# Altium footprint library STM32f103VET6.PcbLib: 28 footprints (part 1 of 2)
Each footprint in its own frame and in the unit in brackets; x right, y up, seen from the top. Pads: shape width x height; smd on the part's side, far side on the other; paste and mask are expansions set on the pad; w line width, h text height; cw(c..) or ccw(c..) is an arc to the next point about the centre after c.
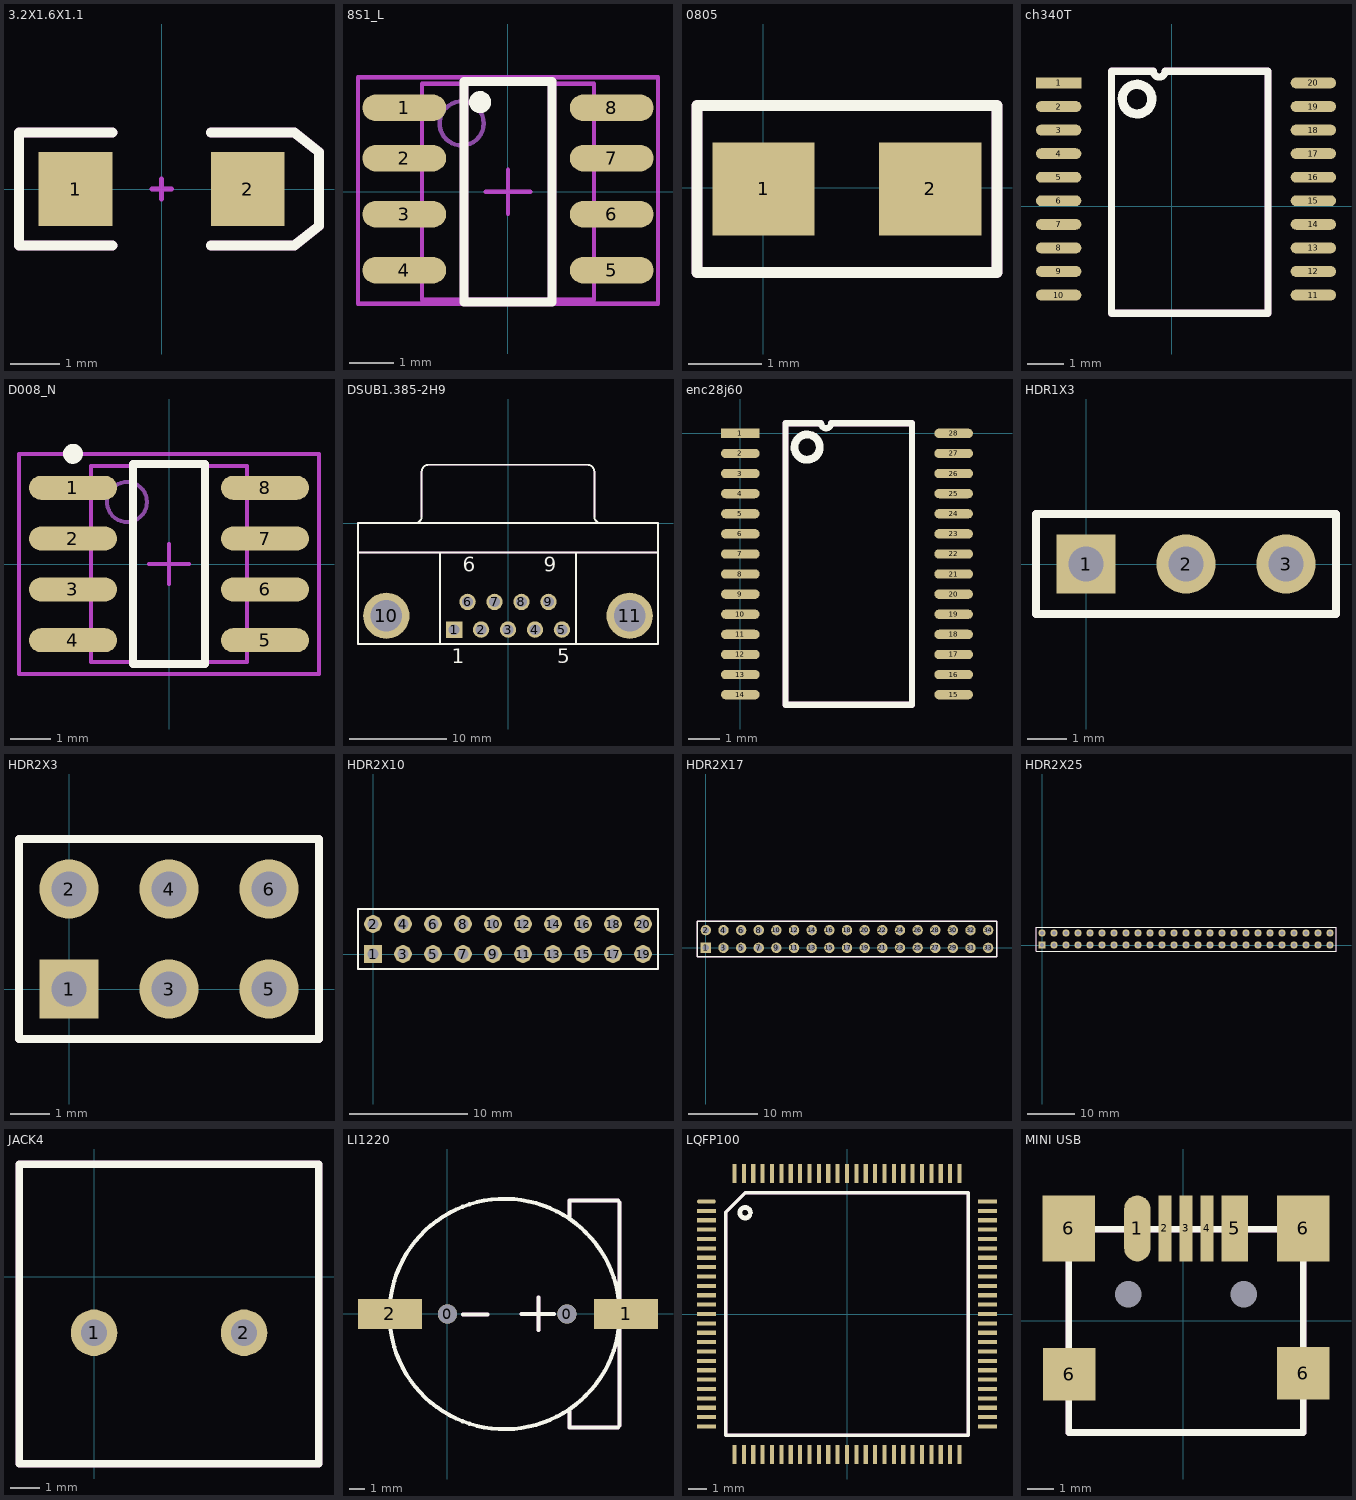
[diagram p0: the footprints below, top view; thin cyan lines are the x and y axes]

## 3.2X1.6X1.1 [mm] "SMT LED; 2 Flat Leads"
height 1.2
pads (2):
  rect 1.5x1.5 smd: 1(-1.75,0) 2(1.75,0)
Top Overlay keep-out:
  lines w0.2: -1,-1.15 -2.9,-1.15 -2.9,1.15 -1,1.15 ; 1,-1.15 2.7,-1.15 3.2,-0.75 3.2,0.75 2.7,1.15 1,1.15
Mechanical 1 keep-out:
  lines w0.1: -0.2,0 0.2,0 ; 0,-0.2 0,0.2

## 8S1_L [mm] "8-Pin Small Outline Integrated Circuit 1.27 mm Pitch, IPC High Density"
height 1.73
pads (8):
  oval 1.9x0.6 smd: 1(-2.35,1.905) 2(-2.35,0.762) 3(-2.35,-0.508) 4(-2.35,-1.778) 5(2.35,-1.778) 6(2.35,-0.508) 7(2.35,0.762) 8(2.35,1.905)
Top Overlay:
  circle w0.25: c-0.633,2.032 r0.125
Top Overlay keep-out:
  lines w0.2: -1,-2.5 -1,2.5 1,2.5 1,-2.5 -1,-2.5
Mechanical 13:
  circle w0.1: c-1.05,1.55 r0.5
Mechanical 13 keep-out:
  lines w0.1: -1.95,-2.45 -1.95,2.45 1.95,2.45 1.95,-2.45 -1.95,-2.45
Mechanical 15 keep-out:
  lines w0.1: -0.5,0 0.5,0 ; 0,-0.5 0,0.5 ; -3.4,-2.54 -3.4,2.6 3.4,2.6 3.4,-2.54 -3.4,-2.54
3D body: height 1.73, standoff 0, extent -1.95,-2.45 1.95,2.45

## 0805 [mm]
pads (2):
  rect 1.4x1.27 smd: 1(0.006,-0.016) 2(2.292,-0.016)
Top Overlay keep-out:
  lines w0.152: -0.907,-1.159 3.208,-1.159 3.208,1.127 -0.907,1.127 -0.907,-1.159

## ch340T [mm]
pads (20):
  rect 1.25x0.3 smd: 1(-3.125,3.4)
  oval 1.25x0.3 smd: 2(-3.125,2.75) 3(-3.125,2.1) 4(-3.125,1.45) 5(-3.125,0.8) 6(-3.125,0.15) 7(-3.125,-0.5) 8(-3.125,-1.15) 9(-3.125,-1.8) 10(-3.125,-2.45) 11(3.9,-2.45) 12(3.9,-1.8) 13(3.9,-1.15) 14(3.9,-0.5) 15(3.9,0.15) 16(3.9,0.8) 17(3.9,1.45) 18(3.9,2.1) 19(3.9,2.75) 20(3.9,3.4)
Top Overlay:
  lines w0.2: -0.513,3.725 ccw(c-0.35,3.725) -0.188,3.725
  lines w0.254: -1.367,2.896 cw(c-0.963,2.954) -1.35,2.825
Top Overlay keep-out:
  lines w0.2: -0.513,3.725 -1.665,3.725 -1.665,-2.95 2.65,-2.95 2.65,3.725 -0.188,3.725

## D008_N [mm] "8-Pin Small Outline Integrated Circuit 1.27 mm Pitch, IPC Medium Density"
height 1.75
pads (8):
  oval 2.2x0.6 smd: 1(-2.4,1.905) 2(-2.4,0.635) 3(-2.4,-0.635) 4(-2.4,-1.905) 5(2.4,-1.905) 6(2.4,-0.635) 7(2.4,0.635) 8(2.4,1.905)
Top Overlay:
  circle w0.25: c-2.4,2.755 r0.125
Top Overlay keep-out:
  lines w0.2: -0.9,-2.5 -0.9,2.5 0.9,2.5 0.9,-2.5 -0.9,-2.5
Mechanical 13:
  circle w0.1: c-1.05,1.55 r0.5
Mechanical 13 keep-out:
  lines w0.1: -1.95,-2.45 -1.95,2.45 1.95,2.45 1.95,-2.45 -1.95,-2.45
Mechanical 15 keep-out:
  lines w0.1: -0.5,0 0.5,0 ; 0,-0.5 0,0.5 ; -3.75,-2.75 -3.75,2.75 3.75,2.75 3.75,-2.75 -3.75,-2.75
3D body: height 1.75, standoff 0, extent -1.95,-2.45 1.95,2.45

## DSUB1.385-2H9 [mm] "Connector; D Subminiature; 9 Position; Right Angle; Pitch 1.385 mm"
height 12.75
pads (11):
  rect 1.69x1.69 hole 1.09: 1(-5.54,-10.92)
  round 1.69 hole 1.09: 2(-2.77,-10.92) 3(0,-10.92) 4(2.77,-10.92) 5(5.54,-10.92) 6(-4.155,-8.08) 7(-1.385,-8.08) 8(1.385,-8.08) 9(4.155,-8.08)
  round 4.76 hole 3.26: 10(-12.495,-9.5) 11(12.495,-9.5)
Top Overlay:
  lines w0.2: -9.56,0.005 ccw(c-9.56,0.7) -8.865,0.7 ; -8.86,5.305 cw(c-8.165,5.305) -8.165,6 ; 8.165,6 cw(c8.165,5.305) 8.86,5.305 ; 8.865,0.7 ccw(c9.56,0.7) 9.56,0.005
  text "6" at -4.655,-4.975 h1.5
  text "9" at 3.655,-4.975 h1.5
  text "5" at 5.04,-14.375 h1.5
  text "1" at -5.79,-14.375 h1.5
Top Overlay keep-out:
  lines w0.2: -15.4,-3 15.4,-3 ; -8.865,0.7 -8.865,5.3 ; -8.165,6 8.165,6 ; -7,-12.4 -7,-3 ; 7,-12.4 7,-3 ; 8.865,0.7 8.865,5.3 ; -15.4,-12.4 15.4,-12.4 15.4,0 -15.4,0 -15.4,-12.4

## enc28j60 [mm]
pads (28):
  rect 1.25x0.3 smd: 1(0,0)
  oval 1.25x0.3 smd: 2(0,-0.65) 3(0,-1.3) 4(0,-1.95) 5(0,-2.6) 6(0,-3.25) 7(0,-3.9) 8(0,-4.55) 9(0,-5.2) 10(0,-5.85) 11(0,-6.5) 12(0,-7.15) 13(0,-7.8) 14(0,-8.45) 15(6.9,-8.45) 16(6.9,-7.8) 17(6.9,-7.15) 18(6.9,-6.5) 19(6.9,-5.85) 20(6.9,-5.2) 21(6.9,-4.55) 22(6.9,-3.9) 23(6.9,-3.25) 24(6.9,-2.6) 25(6.9,-1.95) 26(6.9,-1.3) 27(6.9,-0.65) 28(6.9,0)
Top Overlay:
  lines w0.2: 2.612,0.325 ccw(c2.775,0.325) 2.937,0.325
  lines w0.254: 1.758,-0.504 cw(c2.162,-0.446) 1.775,-0.575
Top Overlay keep-out:
  lines w0.2: 2.612,0.325 1.46,0.325 1.46,-8.775 5.55,-8.775 5.55,0.325 2.937,0.325

## HDR1X3 [mm] "Connector; Header; 3 Position"
pads (3):
  rect 1.5x1.5 hole 0.9: 1(0,0)
  round 1.5 hole 0.9: 2(2.54,0) 3(5.08,0)
Top Overlay keep-out:
  lines w0.2: -1.27,-1.27 6.35,-1.27 6.35,1.27 -1.27,1.27 -1.27,-1.27

## HDR2X3 [mm] "Connector; Header; 3x2 Position"
pads (6):
  rect 1.5x1.5 hole 0.9: 1(0,0)
  round 1.5 hole 0.9: 2(0,2.54) 3(2.54,0) 4(2.54,2.54) 5(5.08,0) 6(5.08,2.54)
Top Overlay keep-out:
  lines w0.2: 1.482,-1.27 6.35,-1.27 ; 6.35,-1.27 6.35,3.81 -1.27,3.81 -1.27,-1.27 6.35,-1.27

## HDR2X10 [mm] "Connector; Header; 10x2 Position"
pads (20):
  rect 1.5x1.5 hole 0.9: 1(0,0)
  round 1.5 hole 0.9: 2(0,2.54) 3(2.54,0) 4(2.54,2.54) 5(5.08,0) 6(5.08,2.54) 7(7.62,0) 8(7.62,2.54) 9(10.16,0) 10(10.16,2.54) 11(12.7,0) 12(12.7,2.54) 13(15.24,0) 14(15.24,2.54) 15(17.78,0) 16(17.78,2.54) 17(20.32,0) 18(20.32,2.54) 19(22.86,0) 20(22.86,2.54)
Top Overlay keep-out:
  lines w0.2: -1.27,-1.27 0.635,-1.27 24.13,-1.27 24.13,3.81 0.635,3.81 -1.27,3.81 -1.27,-1.27

## HDR2X17 [mm] "Connector; Header; 17x2 Position"
pads (34):
  rect 1.5x1.5 hole 0.9: 1(0,0)
  round 1.5 hole 0.9: 2(0,2.54) 3(2.54,0) 4(2.54,2.54) 5(5.08,0) 6(5.08,2.54) 7(7.62,0) 8(7.62,2.54) 9(10.16,0) 10(10.16,2.54) 11(12.7,0) 12(12.7,2.54) 13(15.24,0) 14(15.24,2.54) 15(17.78,0) 16(17.78,2.54) 17(20.32,0) 18(20.32,2.54) 19(22.86,0) 20(22.86,2.54) 21(25.4,0) 22(25.4,2.54) 23(27.94,0) 24(27.94,2.54) 25(30.48,0) 26(30.48,2.54) 27(33.02,0) 28(33.02,2.54) 29(35.56,0) 30(35.56,2.54) 31(38.1,0) 32(38.1,2.54) 33(40.64,0) 34(40.64,2.54)
Top Overlay keep-out:
  lines w0.2: -1.27,-1.27 41.91,-1.27 41.91,3.81 -1.27,3.81 -1.27,-1.27

## HDR2X25 [mm] "Connector; Header; 25x2 Position"
pads (50):
  rect 1.5x1.5 hole 0.9: 1(0,0)
  round 1.5 hole 0.9: 2(0,2.54) 3(2.54,0) 4(2.54,2.54) 5(5.08,0) 6(5.08,2.54) 7(7.62,0) 8(7.62,2.54) 9(10.16,0) 10(10.16,2.54) 11(12.7,0) 12(12.7,2.54) 13(15.24,0) 14(15.24,2.54) 15(17.78,0) 16(17.78,2.54) 17(20.32,0) 18(20.32,2.54) 19(22.86,0) 20(22.86,2.54) 21(25.4,0) 22(25.4,2.54) 23(27.94,0) 24(27.94,2.54) 25(30.48,0) 26(30.48,2.54) 27(33.02,0) 28(33.02,2.54) 29(35.56,0) 30(35.56,2.54) 31(38.1,0) 32(38.1,2.54) 33(40.64,0) 34(40.64,2.54) 35(43.18,0) 36(43.18,2.54) 37(45.72,0) 38(45.72,2.54) 39(48.26,0) 40(48.26,2.54) 41(50.8,0) 42(50.8,2.54) 43(53.34,0) 44(53.34,2.54) 45(55.88,0) 46(55.88,2.54) 47(58.42,0) 48(58.42,2.54) 49(60.96,0) 50(60.96,2.54)
Top Overlay keep-out:
  lines w0.2: -1.27,-1.27 62.23,-1.27 62.23,3.81 -1.27,3.81 -1.27,-1.27

## JACK4 [mil]
pads (2):
  round 62 hole 35: 1(0,-75) 2(200,-75)
Top Overlay keep-out:
  lines w10: -100,-250 300,-250 300,150 -100,150 -100,-250

## LI1220 [mm]
pads (4):
  round 1.2 hole 1.2: 0(0.009,-0.014) 0(7.502,-0.014)
  rect 4x1.9 smd: 1(11.21,-0.014) 2(-3.597,-0.014)
Top Overlay:
  circle w0.254: c3.59,-0.014 r7.22
Top Overlay keep-out:
  lines w0.254: 0.993,-0.058 2.517,-0.058 ; 4.651,-0.007 6.683,-0.007 ; 5.718,-1.023 5.718,1.009 ; 7.654,-6.11 7.654,-7.126 10.702,-7.126 10.81,-7.017 10.81,-0.014 10.81,6.99 10.702,7.098 7.654,7.098 7.654,6.082

## LQFP100 [mm]
pads (100):
  oval 1x0.22 smd: 1(-7.5,6.025)
  rect 1x0.22 smd: 2(-7.5,5.525) 3(-7.5,5.025) 4(-7.5,4.525) 5(-7.5,4.025) 6(-7.5,3.525) 7(-7.5,3.025) 8(-7.5,2.525) 9(-7.5,2.025) 10(-7.5,1.525) 11(-7.5,1.025) 12(-7.5,0.525) 13(-7.5,0.025) 14(-7.5,-0.475) 15(-7.5,-0.975) 16(-7.5,-1.475) 17(-7.5,-1.975) 18(-7.5,-2.475) 19(-7.5,-2.975) 20(-7.5,-3.475) 21(-7.5,-3.975) 22(-7.5,-4.475) 23(-7.5,-4.975) 24(-7.5,-5.475) 25(-7.5,-5.975) 51(7.5,-5.975) 52(7.5,-5.475) 53(7.5,-4.975) 54(7.5,-4.475) 55(7.5,-3.975) 56(7.5,-3.475) 57(7.5,-2.975) 58(7.5,-2.475) 59(7.5,-1.975) 60(7.5,-1.475) 61(7.5,-0.975) 62(7.5,-0.475) 63(7.5,0.025) 64(7.5,0.525) 65(7.5,1.025) 66(7.5,1.525) 67(7.5,2.025) 68(7.5,2.525) 69(7.5,3.025) 70(7.5,3.525) 71(7.5,4.025) 72(7.5,4.525) 73(7.5,5.025) 74(7.5,5.525) 75(7.5,6.025)
  rect 0.22x1 smd: 26(-6,-7.475) 27(-5.5,-7.475) 28(-5,-7.475) 29(-4.5,-7.475) 30(-4,-7.475) 31(-3.5,-7.475) 32(-3,-7.475) 33(-2.5,-7.475) 34(-2,-7.475) 35(-1.5,-7.475) 36(-1,-7.475) 37(-0.5,-7.475) 38(0,-7.475) 39(0.5,-7.475) 40(1,-7.475) 41(1.5,-7.475) 42(2,-7.475) 43(2.5,-7.475) 44(3,-7.475) 45(3.5,-7.475) 46(4,-7.475) 47(4.5,-7.475) 48(5,-7.475) 49(5.5,-7.475) 50(6,-7.475) 76(6,7.525) 77(5.5,7.525) 78(5,7.525) 79(4.5,7.525) 80(4,7.525) 81(3.5,7.525) 82(3,7.525) 83(2.5,7.525) 84(2,7.525) 85(1.5,7.525) 86(1,7.525) 87(0.5,7.525) 88(0,7.525) 89(-0.5,7.525) 90(-1,7.525) 91(-1.5,7.525) 92(-2,7.525) 93(-2.5,7.525) 94(-3,7.525) 95(-3.5,7.525) 96(-4,7.525) 97(-4.5,7.525) 98(-5,7.525) 99(-5.5,7.525) 100(-6,7.525)
Top Overlay:
  lines w0.254: -5.187,5.285 cw(c-5.433,5.425) -5.15,5.425
Top Overlay keep-out:
  lines w0.2: -6.465,-6.44 6.465,-6.44 6.465,6.49 -5.43,6.49 -6.465,5.455 -6.465,-6.44

## MINI USB [mm]
pads (11):
  oval 1x2.5 smd: 1(-1.737,3.514)
  rect 0.5x2.5 smd: 2(-0.687,3.514) 3(0.113,3.514) 4(0.913,3.514)
  rect 1x2.5 smd: 5(1.963,3.514)
  rect 2x2.5 smd: 6(-4.337,3.514) 6(4.563,3.514)
  rect 2x2 smd: 6(-4.318,-2.032) 6(4.563,-1.986)
  round 0 hole 1: ""(-2.087,1.014) ""(2.313,1.014)
Top Overlay keep-out:
  lines w0.254: 3.513,-4.236 4.563,-4.236 4.563,-1.986 4.563,3.489 -4.337,3.489 -4.337,-4.236 3.791,-4.236